# Altium schematic symbol library 388D_Control_v1.SchLib: 117 symbols (part 3 of 3)
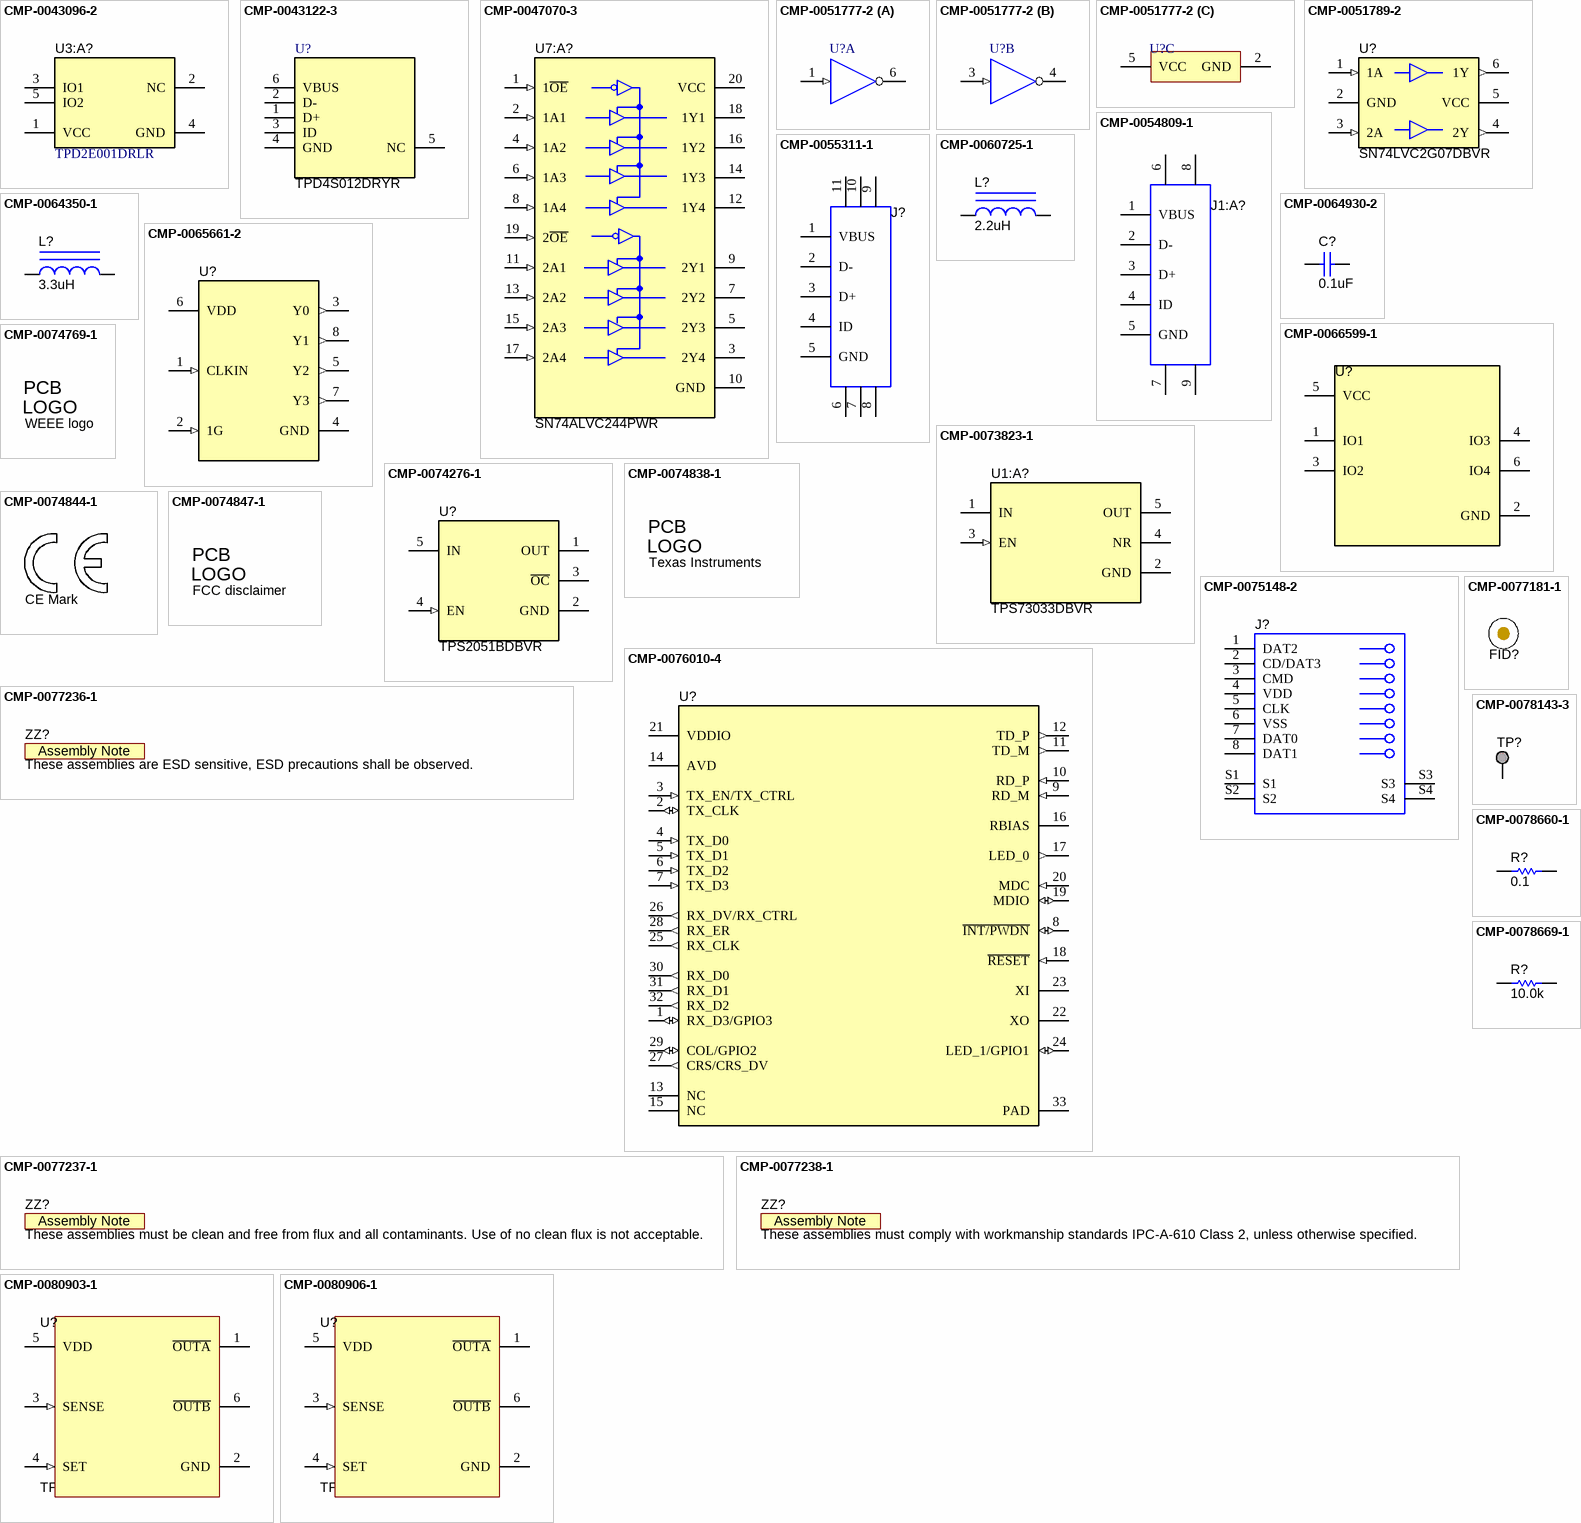
[diagram p6: symbols CMP-0043096-2 to CMP-0080906-1]

## CMP-0074838-1
designator Logo?, comment Texas Instruments  (no BOM)
Texas Instrument Corporate Signature; SymbolCreator: a0412235; Lib Reference: TI_Logo; Library Reference: Logo; SymbolVersion: 2011-08-22; Published: 2009-03-03; Publisher: Texas Instruments; ClassName: Logo; LatestRevisionDate: 2017-07-06; PartNumber: Texas Instruments
footprint TI_Horizontal_Overlay_Medium
footprint TI_Horizontal_Overlay_Small
footprint TI_Stacked_SolderMask_Small
footprint TI_Stacked_SolderMask_Small_Vertical
footprint TI_Symbol_Overlay_Medium
footprint TI_Symbol_Overlay_Small
footprint TI_Symbol_SolderMask_Medium
footprint TI_Symbol_SolderMask_Small
footprint TI_Horizontal_SolderMask_Medium
footprint TI_Horizontal_SolderMask_Small
footprint TI_Stacked_Overlay_Medium
footprint TI_Stacked_Overlay_Medium_Vertical
footprint TI_Stacked_Overlay_Small
footprint TI_Stacked_Overlay_Small_Vertical
footprint TI_Stacked_SolderMask_Medium
footprint TI_Stacked_SolderMask_Medium_Vertical
text: PCB; LOGO

## CMP-0074844-1
designator Logo?, comment CE Mark  (no BOM)
SymbolCreator: a0412235; Published: 2009-03-03; Publisher: Texas Instruments; LatestRevisionDate: 2017-07-06; Lib Reference: CE Mark; PartNumber: CE Mark; Library Reference: CE Mark
footprint CE_Mark_5mm (Minimum text height for CE Mark)
footprint CE_Mark_10mm (Double the minimum text height for CE Mark)

## CMP-0074847-1
designator Logo?, comment FCC disclaimer  (no BOM)
FCC_disclaimer; Library Reference: Logo; Published: 2009-03-03; Publisher: Texas Instruments; LatestRevisionDate: 2017-07-06; Lib Reference: FCC_disclaimer; PartNumber: FCC disclaimer
footprint FCC_disclaimer
footprint FCC_disclaimer_stacked
text: PCB; LOGO

## CMP-0075148-2
designator J?, comment 2908-05WB-MG  (value not drawn)
Connector, Micro SD, R/A, SMD; Manufacturer: 3M; Gender: Female; Row_Count: 1; Pitch_mm: 1.1; ContactFinish: Gold; ComponentLink1URL: http://multimedia.3m.com/mws/media/416257O/3mtm-card-connector-microsdtm-2900-series-ts2197.pdf?&a4x&cEVuQEcuZgVs6EVs6E666666--; Supplier Part Number 2: 28M0115; Supplier 2: Newark; Supplier Part Number 3: 517-2908-05WB-MG; Supplier 3: Mouser; RoHS: Y; MountType: SMT; Supplier 1: Digi-Key; PackageReference: Connector, Micro SD, R/A, SMD; PinCount: 8; CompType: Connector; PartNumber: 2908-05WB-MG; Orientation: R/A; ComponentLink1Description: Datasheet URL; Supplier Part Number 1: 3M5607CT-ND
footprint 3M_2908-05WB-MG (Connector, Micro SD, R/A, SMD)
pins: 1 DAT2, 2 CD/DAT3, 3 CMD, 4 VDD, 5 CLK, 6 VSS, 7 DAT0, 8 DAT1, S1, S2, S3, S4
1 alternate drawing of the same symbol

## CMP-0076010-4
designator U?, comment DP83822IRHBR  (value not drawn)
Robust, Low Power 10/100 Ethernet Physical Layer Transceiver, RHB0032B (VQFN-32); Alternate PartNumber: DP83822IRHBT; Manufacturer: Texas Instruments; SizeZ_mm: 1.0; SizeX_mm: 5.0; SizeArea_mm2: 25.0; CompType: IC; SizeAreaWB_mm2: 49.0; AEC Category: Q200; AEC Qualified: N; ComponentLink1URL: http://www.ti.com/lit/ds/symlink/dp83822i.pdf; PackageDescription: VQFN-32; SizeY_mm: 5.0; PackageReference: RHB0032B; RoHS: Y; PartNumber: DP83822IRHBR; ComponentLink1Description: Datasheet Link; MountType: SMT; Alternate Manufacturer: Texas Instruments; ComponentLink2Description: ComponentLink2Description; ComponentLink2URL: http://www.ti.com/product/dp83822i; ComponentLink3Description: Online Datasheet; ComponentLink3URL: http://www.ti.com/product/GPN/datasheet
footprint RHB0032B (QFN, 32-Leads, Body 5x5mm, Pitch 0.5mm, Thermal Pad 2.9x2.9mm)
pins: 1 RX_D3/GPIO3 (io), 2 TX_CLK (io), 3 TX_EN/TX_CTRL (in), 4 TX_D0 (in), 5 TX_D1 (in), 6 TX_D2 (in), 7 TX_D3 (in), 8 ~{INT/PWDN} (io), 9 RD_M (in), 10 RD_P (in), 11 TD_M (out), 12 TD_P (out), 13 NC, 14 AVD (power), 15 NC, 16 RBIAS, 17 LED_0 (out), 18 ~{RESET} (in), 19 MDIO (io), 20 MDC (in), 21 VDDIO (power), 22 XO, 23 XI, 24 LED_1/GPIO1 (io), 25 RX_CLK (out), 26 RX_DV/RX_CTRL (out), 27 CRS/CRS_DV (out), 28 RX_ER (out), 29 COL/GPIO2 (io), 30 RX_D0 (out), 31 RX_D1 (out), 32 RX_D2 (out), 33 PAD (power)

## CMP-0077181-1
designator FID?, comment Fiducial  (value not drawn)
Fiducial mark.  There is nothing to buy or mount.; CompType: Fiducial; Manufacturer: N/A; MountType: N/A; PackageReference: N/A; PartNumber: N/A; ClassName: FiducialMark; Library Reference: Fiducial
footprint Fiducial10-30
footprint Fiducial15-30
footprint Fiducial10-20
footprint Fiducial20-40
footprint Fiducial6.4-20

## CMP-0077236-1
designator ZZ?, comment These assemblies are ESD sensitive, ESD precautions shall be observed.  (no BOM)
CompType: AssemblyNote; ClassName: AssemblyNote; Publisher: Texas Instruments; LatestRevisionDate: 2017-08-10; Key: AssemblyNote
footprint AssemblyNote (Assembly Note)
text: Assembly Note

## CMP-0077237-1
designator ZZ?, comment These assemblies must be clean and free from flux and all contaminants. Use of no clean flux is not acceptable.  (no BOM)
CompType: AssemblyNote; ClassName: AssemblyNote; Publisher: Texas Instruments; LatestRevisionDate: 2017-08-10; Key: AssemblyNote
footprint AssemblyNote (Assembly Note)
text: Assembly Note

## CMP-0077238-1
designator ZZ?, comment These assemblies must comply with workmanship standards IPC-A-610 Class 2, unless otherwise specified.  (no BOM)
CompType: AssemblyNote; ClassName: AssemblyNote; Publisher: Texas Instruments; LatestRevisionDate: 2017-08-10; Key: AssemblyNote
footprint AssemblyNote (Assembly Note)
text: Assembly Note

## CMP-0078143-3
designator TP?, comment TESTPOINT  (value not drawn)  (no BOM)
TEST POINT.  No entry in BOM.; CompType: Testpoint; PackageReference: N/A; Manufacturer: N/A; PartNumber: N/A; Library Reference: TESTPOINT
footprint TESTPOINT
footprint TP_VIA_018RND008
footprint TP_VIA_060RND040
footprint TP_25MIL-SMT
footprint TP_50MIL-25MILHOLE
footprint TP_60MIL-SMT
footprint TP_VIA_024RND014
footprint TP_50MIL-SMT
footprint TP_60MIL-SMT-155
pins: 1

## CMP-0078660-1
designator R?, comment ValueDisplayed: 0.1  (hidden comment: ERJ2BWFR100X)
RES, 0.1, 1%, 0.25 W, 0402; Manufacturer: Panasonic; Power_W: 250mW; TempCo: 300 ppm/C; Value_Code: R100; Value: 0.1; EIA_Code: E96; Res_ohm: 1d; SizeX_mm: 1; SizeY_mm: 0.5; SizeZ_mm: 0.6; Value2: 0.25W; CompType: Resistor; AEC Qualified: N; AEC Category: Q200; ComponentLink1URL: https://industrial.panasonic.com/cdbs/www-data/pdf/RDN0000/AOA0000C313.pdf; Supplier Part Number 2: 667-ERJ-2BWFR100X; Supplier 2: Mouser; RoHS: Y; Value1: 1%; MountType: SMT; Supplier 1: Digi-Key; PackageReference: 0402; Tolerance_%: 1%; SizeArea_mm2: 0.5; PartNumber: ERJ2BWFR100X; ComponentLink1Description: Datasheet link; AEC Grade: N/A; Supplier Part Number 1: P17368CT-ND; Technology: Thick Film
footprint 0402 (0402 from SM-752 data)
footprint 0402M (0402 from SM-752 data)
footprint 0402L (0402 from SM-752 data)
footprint 0402S (Based on C0402S footprint from PADS legacy)
pins: 1, 2

## CMP-0078669-1
designator R?, comment ValueDisplayed: 10.0k  (hidden comment: RC0402FR-0710KL)
RES, 10.0 k, 1%, 0.063 W, 0402; Manufacturer: Yageo America; Power_W: 63mW; Green_Lifecycle: Active; TempCo: 100 ppm/C; Value_Code: 10k0; Green_REACh: Passed; Value: 10.0k; EIA_Code: E96; Res_ohm: 10k; SizeX_mm: 1; SizeY_mm: 0.5; SizeZ_mm: 0.6; Value2: 0.063W; CompType: Resistor; AEC Qualified: N; AEC Category: Q200; ComponentLink1URL: http://www.yageo.com/documents/recent/PYu-RC_Group_51_RoHS_L_8.pdf; Supplier Part Number 2: 98K7499; Supplier 2: Newark; Supplier Part Number 3: 603-RC0402FR-0710KL; Supplier 3: Mouser; RoHS: Y; Value1: 1%; MountType: SMT; Green_EU RoHS-2: Passed; Supplier 1: Digi-Key; Green_EU RoHS: Passed with Exemption; PackageReference: 0402; Tolerance_%: 1%; SizeArea_mm2: 0.5; PartNumber: RC0402FR-0710KL; ComponentLink1Description: Datasheet link; AEC Grade: N/A; Supplier Part Number 1: 311-10.0KLRCT-ND; Technology: Thick Film
footprint 0402 (0402 from SM-752 data)
footprint 0402M (0402 from SM-752 data)
footprint 0402L (0402 from SM-752 data)
footprint 0402S (Based on C0402S footprint from PADS legacy)
pins: 1, 2

## CMP-0080903-1
designator U?, comment TPS3702CX33DDCT
High-Accuracy, Fixed-Threshold OV/UV Monitor, DDC0006A (SOT-23-T-6); Alternate PartNumber: TPS3702CX33DDCR; Alternate Manufacturer: Texas Instruments; SizeAreaWB_mm2: 10.4675; SizeZ_mm: 0.87; SizeX_mm: 1.65; SizeY_mm: 2.95; SizeArea_mm2: 4.8675; CompType: IC; AEC Qualified: N; AEC Category: Q200; ComponentLink1URL: http://www.ti.com/lit/ds/symlink/tps3702.pdf; PackageDescription: SOT-23-T-6; RoHS: Y; MountType: SMT; ComponentLink2URL: http://www.ti.com/product/tps3702; ComponentLink3Description: Online Datasheet; ComponentLink2Description: Product Folder; Manufacturer: Texas Instruments; ComponentLink3URL: http://www.ti.com/product/tps3702/datasheet; PackageReference: DDC0006A; ComponentLink1Description: Datasheet Link; PartNumber: TPS3702CX33DDCT
footprint DDC0006A_N
footprint DDC0006A_M
footprint DDC0006A_L
pins: 1 ~{OUTA} (oc), 2 GND (power), 3 SENSE (in), 4 SET (in), 5 VDD (power), 6 ~{OUTB} (oc)
1 alternate drawing of the same symbol

## CMP-0080906-1
designator U?, comment TPS3702CX12DDCT
High-Accuracy, Fixed-Threshold OV/UV Monitor, DDC0006A (SOT-23-T-6); Alternate PartNumber: TPS3702CX12DDCR; Alternate Manufacturer: Texas Instruments; SizeAreaWB_mm2: 10.4675; SizeZ_mm: 0.87; SizeX_mm: 1.65; SizeY_mm: 2.95; SizeArea_mm2: 4.8675; CompType: IC; AEC Qualified: N; AEC Category: Q200; ComponentLink1URL: http://www.ti.com/lit/ds/symlink/tps3702.pdf; PackageDescription: SOT-23-T-6; RoHS: Y; MountType: SMT; ComponentLink2URL: http://www.ti.com/product/tps3702; ComponentLink3Description: Online Datasheet; ComponentLink2Description: Product Folder; Manufacturer: Texas Instruments; ComponentLink3URL: http://www.ti.com/product/tps3702/datasheet; PackageReference: DDC0006A; ComponentLink1Description: Datasheet Link; PartNumber: TPS3702CX12DDCT
footprint DDC0006A_N
footprint DDC0006A_M
footprint DDC0006A_L
pins: 1 ~{OUTA} (oc), 2 GND (power), 3 SENSE (in), 4 SET (in), 5 VDD (power), 6 ~{OUTB} (oc)
1 alternate drawing of the same symbol

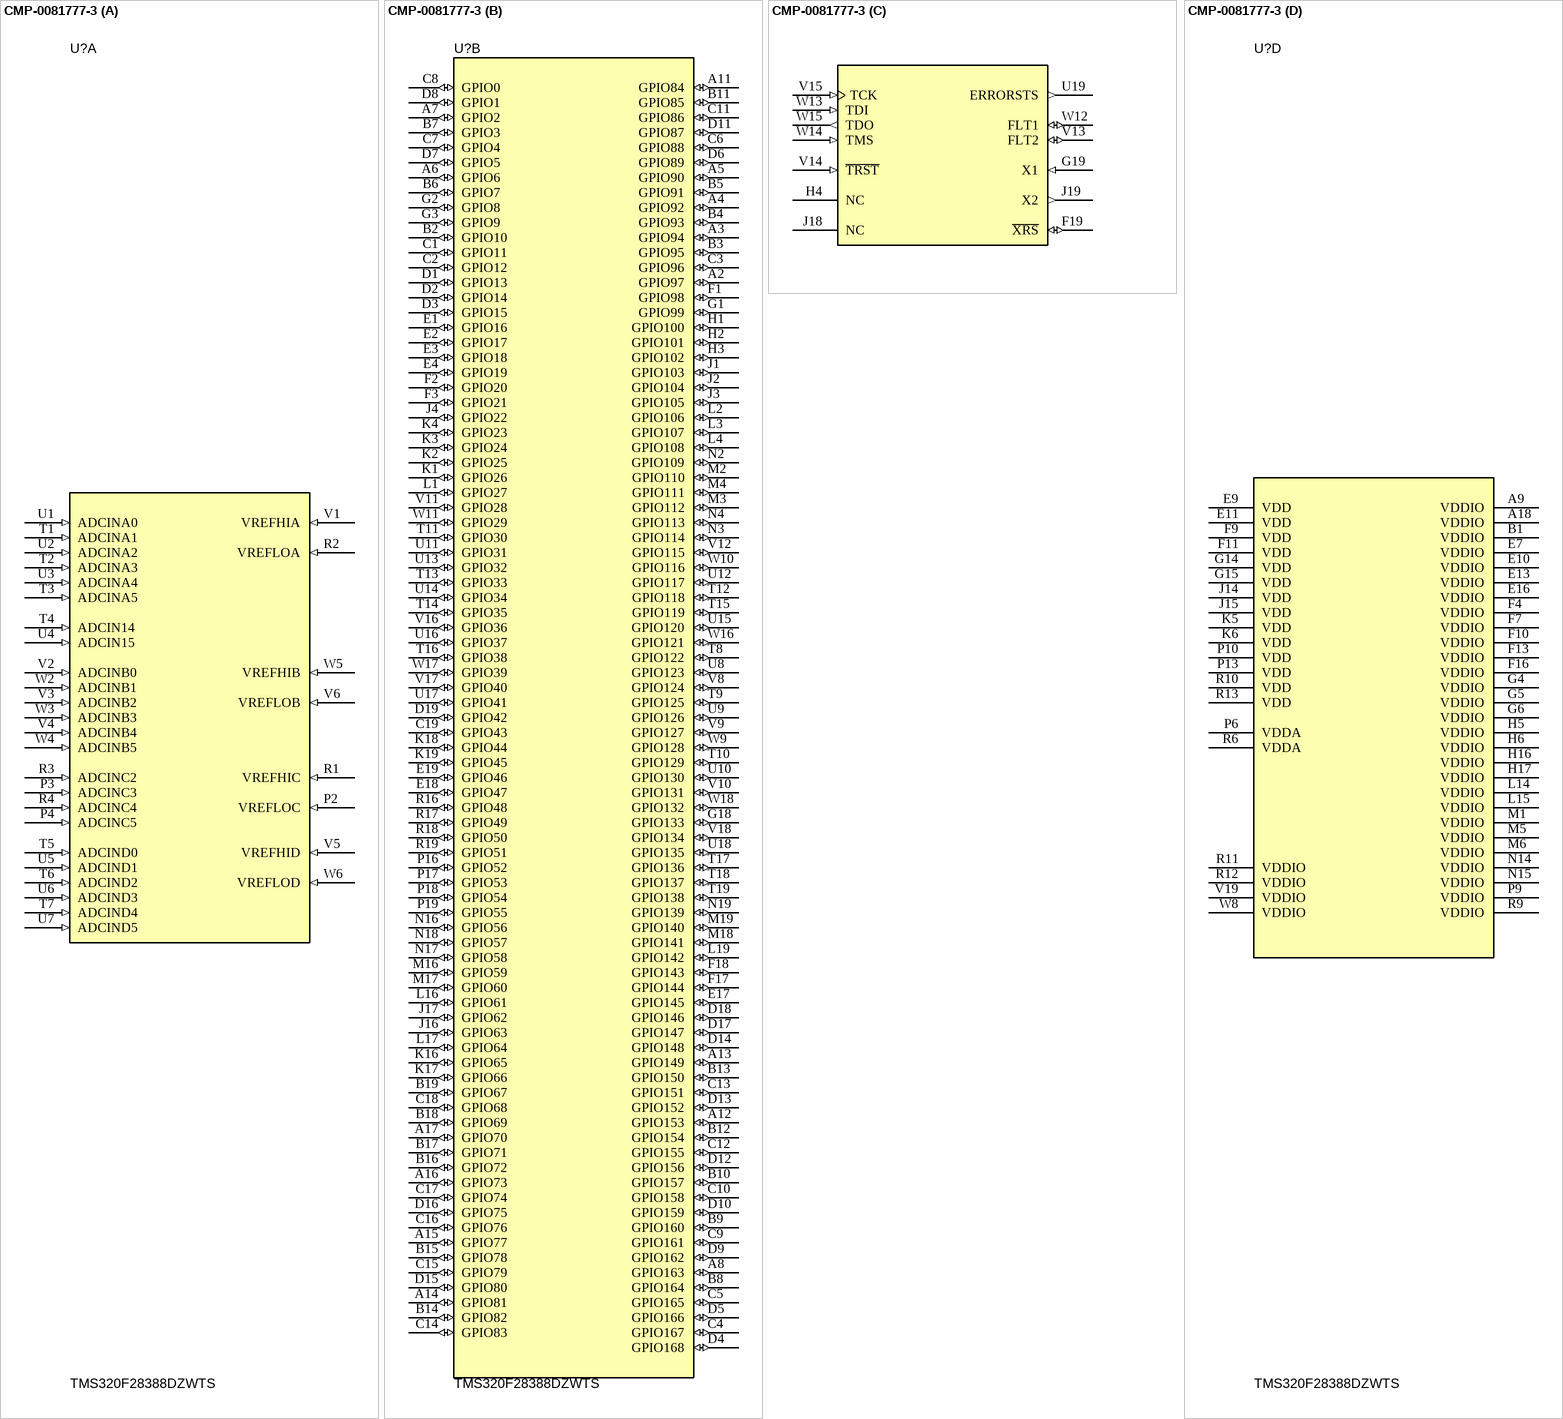
[diagram p3: symbol CMP-0081777-3]

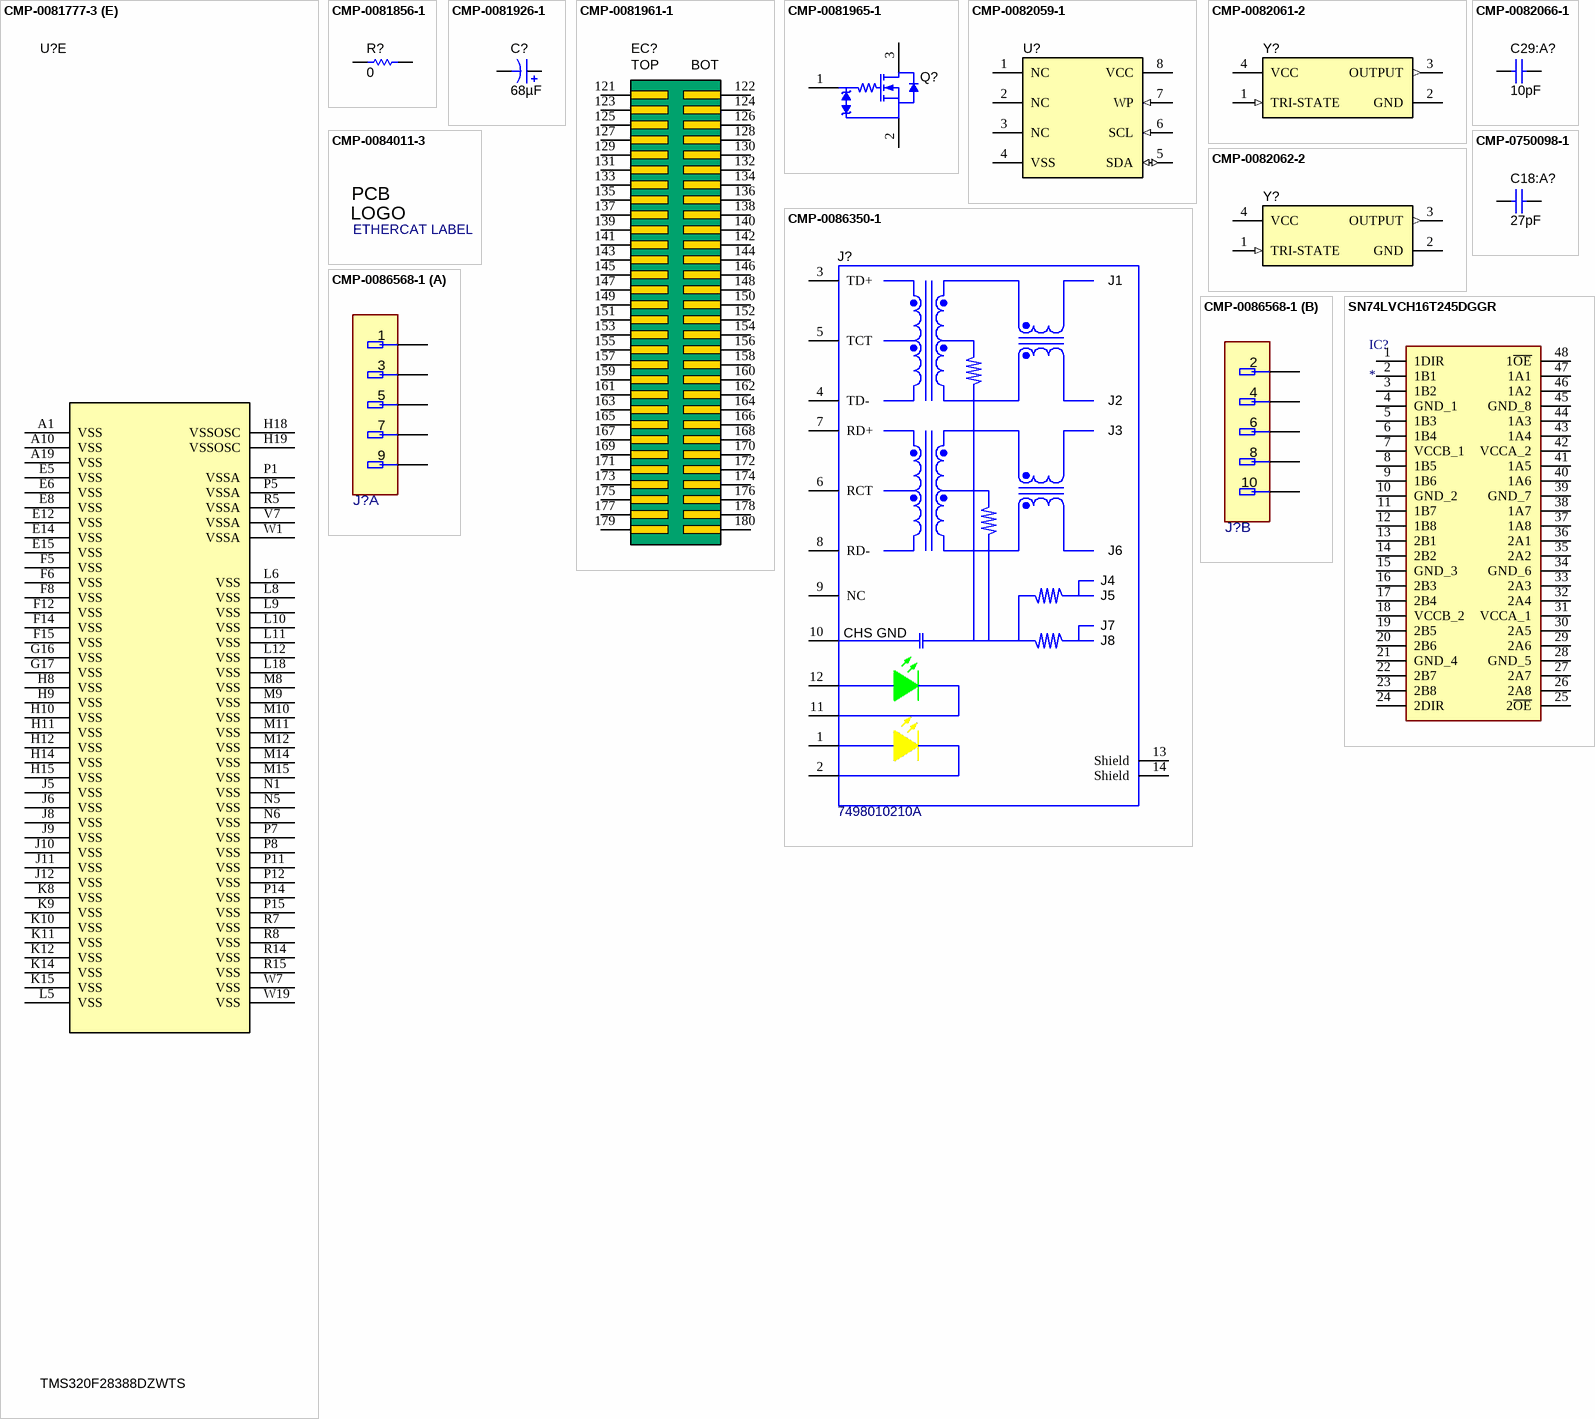
[diagram p4: symbols CMP-0081777-3 to SN74LVCH16T245DGGR]

## CMP-0081777-3
designator U?, comment TMS320F28388DZWTS
TMS320F28388DZWTS, ZWT0337A (NFBGA-337); Manufacturer: Texas Instruments; SizeAreaWB_mm2: 324; SizeArea_mm2: 256; AEC Qualified: N; AEC Category: Q200; SizeZ_mm: 1.4; SizeY_mm: 16; CompType: IC; ComponentLink1Description: Datasheet Link; ComponentLink2Description: Product Folder; PackageReference: ZWT0337A; PackageDescription: NFBGA-337; ComponentLink2URL: http://www.ti.com/product/tms320f28388d; Alternate Manufacturer: Texas Instruments; ComponentLink3URL: http://www.ti.com/product/tms320f28388d/datasheet; ComponentLink1URL: http://www.ti.com/lit/ds/symlink/tms320f28388d.pdf; MountType: SMT; ComponentLink3Description: Online Datasheet; SizeX_mm: 16; PartNumber: TMS320F28388DZWTS
footprint ZWT0337A (BGA, 337-Leads, Body 16x16mmx1.4mm, Pitch 0.80mm)
part A pins: P2 VREFLOC (in), P3 ADCINC3 (in), P4 ADCINC5 (in), R1 VREFHIC (in), R2 VREFLOA (in), R3 ADCINC2 (in), R4 ADCINC4 (in), T1 ADCINA1 (in), T2 ADCINA3 (in), T3 ADCINA5 (in), T4 ADCIN14 (in), T5 ADCIND0 (in), T6 ADCIND2 (in), T7 ADCIND4 (in), U1 ADCINA0 (in), U2 ADCINA2 (in), U3 ADCINA4 (in), U4 ADCIN15 (in), U5 ADCIND1 (in), U6 ADCIND3 (in), U7 ADCIND5 (in), V1 VREFHIA (in), V2 ADCINB0 (in), V3 ADCINB2 (in), V4 ADCINB4 (in), V5 VREFHID (in), V6 VREFLOB (in), W2 ADCINB1 (in), W3 ADCINB3 (in), W4 ADCINB5 (in), W5 VREFHIB (in), W6 VREFLOD (in)
part B pins: A2 GPIO97 (io), A3 GPIO94 (io), A4 GPIO92 (io), A5 GPIO90 (io), A6 GPIO6 (io), A7 GPIO2 (io), A8 GPIO163 (io), A11 GPIO84 (io), A12 GPIO153 (io), A13 GPIO149 (io), A14 GPIO81 (io), A15 GPIO77 (io), A16 GPIO73 (io), A17 GPIO70 (io), B2 GPIO10 (io), B3 GPIO95 (io), B4 GPIO93 (io), B5 GPIO91 (io), B6 GPIO7 (io), B7 GPIO3 (io), B8 GPIO164 (io), B9 GPIO160 (io), B10 GPIO157 (io), B11 GPIO85 (io), B12 GPIO154 (io), B13 GPIO150 (io), B14 GPIO82 (io), B15 GPIO78 (io), B16 GPIO72 (io), B17 GPIO71 (io), B18 GPIO69 (io), B19 GPIO67 (io), C1 GPIO11 (io), C2 GPIO12 (io), C3 GPIO96 (io), C4 GPIO167 (io), C5 GPIO165 (io), C6 GPIO88 (io), C7 GPIO4 (io), C8 GPIO0 (io), C9 GPIO161 (io), C10 GPIO158 (io), C11 GPIO86 (io), C12 GPIO155 (io), C13 GPIO151 (io), C14 GPIO83 (io), C15 GPIO79 (io), C16 GPIO76 (io), C17 GPIO74 (io), C18 GPIO68 (io), C19 GPIO43 (io), D1 GPIO13 (io), D2 GPIO14 (io), D3 GPIO15 (io), D4 GPIO168 (io), D5 GPIO166 (io), D6 GPIO89 (io), D7 GPIO5 (io), D8 GPIO1 (io), D9 GPIO162 (io), D10 GPIO159 (io), D11 GPIO87 (io), D12 GPIO156 (io), D13 GPIO152 (io), D14 GPIO148 (io), D15 GPIO80 (io), D16 GPIO75 (io), D17 GPIO147 (io), D18 GPIO146 (io), D19 GPIO42 (io), E1 GPIO16 (io), E2 GPIO17 (io), E3 GPIO18 (io), E4 GPIO19 (io), E17 GPIO145 (io), E18 GPIO47 (io), E19 GPIO46 (io), F1 GPIO98 (io), F2 GPIO20 (io), F3 GPIO21 (io), F17 GPIO144 (io), F18 GPIO143 (io), G1 GPIO99 (io), G2 GPIO8 (io), G3 GPIO9 (io), G18 GPIO133 (io), H1 GPIO100 (io), H2 GPIO101 (io), H3 GPIO102 (io), J1 GPIO103 (io), J2 GPIO104 (io), J3 GPIO105 (io), J4 GPIO22 (io), J16 GPIO63 (io), J17 GPIO62 (io), K1 GPIO26 (io), K2 GPIO25 (io), K3 GPIO24 (io), K4 GPIO23 (io), K16 GPIO65 (io), K17 GPIO66 (io), K18 GPIO44 (io), K19 GPIO45 (io), L1 GPIO27 (io), L2 GPIO106 (io), L3 GPIO107 (io), L4 GPIO108 (io), L16 GPIO61 (io), L17 GPIO64 (io), L19 GPIO142 (io), M2 GPIO110 (io), M3 GPIO112 (io), M4 GPIO111 (io), M16 GPIO59 (io), M17 GPIO60 (io), M18 GPIO141 (io), M19 GPIO140 (io), N2 GPIO109 (io), N3 GPIO114 (io), N4 GPIO113 (io), N16 GPIO56 (io), N17 GPIO58 (io), N18 GPIO57 (io), N19 GPIO139 (io), P16 GPIO52 (io), P17 GPIO53 (io), P18 GPIO54 (io), P19 GPIO55 (io), R16 GPIO48 (io), R17 GPIO49 (io), R18 GPIO50 (io), R19 GPIO51 (io), T8 GPIO122 (io), T9 GPIO125 (io), T10 GPIO129 (io), T11 GPIO30 (io), T12 GPIO118 (io), T13 GPIO33 (io), T14 GPIO35 (io), T15 GPIO119 (io), T16 GPIO38 (io), T17 GPIO136 (io), T18 GPIO137 (io), T19 GPIO138 (io), U8 GPIO123 (io), U9 GPIO126 (io), U10 GPIO130 (io), U11 GPIO31 (io), U12 GPIO117 (io), U13 GPIO32 (io), U14 GPIO34 (io), U15 GPIO120 (io), U16 GPIO37 (io), U17 GPIO41 (io), U18 GPIO135 (io), V8 GPIO124 (io), V9 GPIO127 (io), V10 GPIO131 (io), V11 GPIO28 (io), V12 GPIO115 (io), V16 GPIO36 (io), V17 GPIO40 (io), V18 GPIO134 (io), W9 GPIO128 (io), W10 GPIO116 (io), W11 GPIO29 (io), W16 GPIO121 (io), W17 GPIO39 (io), W18 GPIO132 (io)
part C pins: F19 ~{XRS} (io), G19 X1 (in), H4 NC, J18 NC, J19 X2 (out), U19 ERRORSTS (out), V13 FLT2 (io), V14 ~{TRST} (in), V15 TCK (in), W12 FLT1 (io), W13 TDI (in), W14 TMS (in), W15 TDO (out)
part D pins: A9 VDDIO (power), A18 VDDIO (power), B1 VDDIO (power), E7 VDDIO (power), E9 VDD (power), E10 VDDIO (power), E11 VDD (power), E13 VDDIO (power), E16 VDDIO (power), F4 VDDIO (power), F7 VDDIO (power), F9 VDD (power), F10 VDDIO (power), F11 VDD (power), F13 VDDIO (power), F16 VDDIO (power), G4 VDDIO (power), G5 VDDIO (power), G6 VDDIO (power), G14 VDD (power), G15 VDD (power), H5 VDDIO (power), H6 VDDIO (power), H16 VDDIO (power), H17 VDDIO (power), J14 VDD (power), J15 VDD (power), K5 VDD (power), K6 VDD (power), L14 VDDIO (power), L15 VDDIO (power), M1 VDDIO (power), M5 VDDIO (power), M6 VDDIO (power), N14 VDDIO (power), N15 VDDIO (power), P6 VDDA (power), P9 VDDIO (power), P10 VDD (power), P13 VDD (power), R6 VDDA (power), R9 VDDIO (power), R10 VDD (power), R11 VDDIO (power), R12 VDDIO (power), R13 VDD (power), V19 VDDIO (power), W8 VDDIO (power)
part E pins: A1 VSS (power), A10 VSS (power), A19 VSS (power), E5 VSS (power), E6 VSS (power), E8 VSS (power), E12 VSS (power), E14 VSS (power), E15 VSS (power), F5 VSS (power), F6 VSS (power), F8 VSS (power), F12 VSS (power), F14 VSS (power), F15 VSS (power), G16 VSS (power), G17 VSS (power), H8 VSS (power), H9 VSS (power), H10 VSS (power), H11 VSS (power), H12 VSS (power), H14 VSS (power), H15 VSS (power), H18 VSSOSC (power), H19 VSSOSC (power), J5 VSS (power), J6 VSS (power), J8 VSS (power), J9 VSS (power), J10 VSS (power), J11 VSS (power), J12 VSS (power), K8 VSS (power), K9 VSS (power), K10 VSS (power), K11 VSS (power), K12 VSS (power), K14 VSS (power), K15 VSS (power), L5 VSS (power), L6 VSS (power), L8 VSS (power), L9 VSS (power), L10 VSS (power), L11 VSS (power), L12 VSS (power), L18 VSS (power), M8 VSS (power), M9 VSS (power), M10 VSS (power), M11 VSS (power), M12 VSS (power), M14 VSS (power), M15 VSS (power), N1 VSS (power), N5 VSS (power), N6 VSS (power), P1 VSSA (power), P5 VSSA (power), P7 VSS (power), P8 VSS (power), P11 VSS (power), P12 VSS (power), P14 VSS (power), P15 VSS (power), R5 VSSA (power), R7 VSS (power), R8 VSS (power), R14 VSS (power), R15 VSS (power), V7 VSSA (power), W1 VSSA (power), W7 VSS (power), W19 VSS (power)

## CMP-0081856-1
designator R?, comment ValueDisplayed: 0  (hidden comment: CRCW04020000Z0EDHP)
RES, 0, 0%, 0.2 W, AEC-Q200 Grade 0, 0402; Manufacturer: Vishay-Dale; SizeAreaWB_mm2: 3; SizeArea_mm2: 0.5; AEC Qualified: Y; AEC Category: Q200; Value: 0; SizeZ_mm: 0.6; Power_W: 200mW; VDC_V: 50V; Value2: 0.2W; CompType: Resistor; SizeX_mm: 1; ComponentLink1Description: Datasheet link; RoHS: Y; Supplier Part Number 3: 71-CRCW04020000Z0EDH; Tolerance_%: 0%; Value_Code: 0; Supplier 1: Digi-Key; PackageReference: 0402; Technology: Thick Film; Res_ohm: 0; PartNumber: CRCW04020000Z0EDHP; Supplier Part Number 2: 96Y9050; Supplier 2: Newark; AEC Grade: 0; SizeY_mm: 0.5; ComponentLink1URL: http://www.vishay.com/docs/20043/crcwhpe3.pdf; Value1: 0%; MountType: SMT; Supplier Part Number 1: 541-0.0YBTR-ND; Supplier 3: Mouser
footprint 0402 (0402 from SM-752 data)
footprint 0402M (0402 from SM-752 data)
footprint 0402L (0402 from SM-752 data)
footprint 0402S (Based on C0402S footprint from PADS legacy)
pins: 1, 2

## CMP-0081926-1
designator C?, comment ValueDisplayed: 68µF  (hidden comment: TLJA686M010R1500)
CAP, TA, 68 µF, 10 V, +/- 20%, 1.5 ohm, SMD; Manufacturer: AVX; TaMin_C: -55°C; ESR_ohm: 1.5; Polarized: Y; SizeAreaWB_mm2: 10.92; Value1: 1.5 ohm; Value: 68uF; TaMax_C: 125°C; SizeZ_mm: 1.8; SizeX_mm: 3.2; SizeY_mm: 1.6; Cap_Case: 3216-18; Value2: 10V; SizeArea_mm2: 5.12; CompType: Capacitor; AEC Qualified: N; IRMS_A: 2.24dA; AEC Category: Q200; ComponentLink1URL: http://datasheets.avx.com/TLJ.pdf; Supplier Part Number 2: 581-TLJA686M010R1500; Supplier 2: Mouser; RoHS: Y; MountType: SMT; Supplier 1: Digi-Key; PackageReference: 3216-18; Tolerance_%: 20%; PartNumber: TLJA686M010R1500; Series: TLJ; Cap_F: 68µF; ComponentLink1Description: Datasheet link; AEC Grade: N/A; Supplier Part Number 1: 478-4925-1-ND; Technology: TA
footprint 3216-18 (Based on AVX recommendation in http://www.avx.com/download/software/literature/AVX-Footprint-Library.pdf)
pins: 1 +, 2 -

## CMP-0081961-1
designator EC?, comment controlCARD-180HSEC-60pinAddon_Edge  (value not drawn)  (no BOM)
C2000 controlCARD-180HSEC (60-pin addon) Edge connector for Samtec HSEC8-130-01-L-DV-A; Manufacturer: Any; Note: The pin numbering does not match Samtec datasheet; CompType: Edge Connector; PartNumber: controlCARD-180HSEC-60pinAddon_Edge; MountType: N/A
footprint controlCARD-180HSEC-60pinAddon_Edge (Edge Connector, 0.8mm, 30x2, pad numbers do not match Samtec datasheet)
pins: 121, 122, 123, 124, 125, 126, 127, 128, 129, 130, 131, 132, 133, 134, 135, 136, 137, 138, 139, 140, 141, 142, 143, 144, 145, 146, 147, 148, 149, 150, 151, 152, 153, 154, 155, 156, 157, 158, 159, 160, 161, 162, 163, 164, 165, 166, 167, 168, 169, 170, 171, 172, 173, 174, 175, 176, 177, 178, 179, 180
text: TOP; BOT

## CMP-0081965-1
designator Q?, comment NTA7002NT1G  (value not drawn)
MOSFET, N-CH, 30 V, 0.154 A, AEC-Q101, SOT-416; Manufacturer: ON Semiconductor; Alternate Manufacturer: None; ChType: N; SizeAreaWB_mm2: 6.76; SizeArea_mm2: 2.56; IdsMax_A: 1.54dA; AEC Qualified: Y; VdsMax_V: 30V; Rdson45_ohm: 7; Vgs_V: 10V; AEC Category: Q101; Value: 30V; SizeZ_mm: 0.95; ChMode: Enhancement; SizeY_mm: 1.6; Value2: ? nC; Value1: 7 ohm; ComponentLink1Description: Datasheet link; RoHS: Y; Supplier Part Number 3: 863-NTA7002NT1G; Supplier 1: Digi-Key; PackageReference: SOT-416; PartNumber: NTA7002NT1G; Supplier Part Number 2: 10N9709; Supplier 2: Newark; ComponentLink1URL: https://www.onsemi.com/pub/Collateral/NTA7002N-D.PDF; CompType: MOSFET; MountType: SMT; Supplier Part Number 1: NTA7002NT1GOSCT-ND; SizeX_mm: 1.6; Supplier 3: Mouser
footprint SOT-416 (NXP recommended footprint.)
pins: 1 G, 2 S, 3 D

## CMP-0082059-1
designator U?, comment CAT24C16WI-GT3  (value not drawn)
16 Kb I2C EEPROM Serial, SOIC-8; Manufacturer: ON Semiconductor; SizeArea_mm2: 29.351; SizeAreaWB_mm2: 55.131; SizeY_mm: 4.9; SizeZ_mm: 1.75; SizeX_mm: 5.99; PartNumber: CAT24C16WI-GT3; Supplier Part Number 2: 23AC2979; Supplier 3: Mouser; PackageReference: SOIC-8; Supplier Part Number 1: CAT24C16WI-GT3CT-ND; ComponentLink1Description: Datasheet URL; MountType: SMT; ComponentLink1URL: https://www.onsemi.com/pub/Collateral/CAT24C01-D.PDF; Supplier 1: Digi-Key; RoHS: Y; Supplier 2: Newark; Supplier Part Number 3: 698-CAT24C16WI-GT3
footprint SOIC-8 (duplicate of SO-8.  SOIC, 8-Leads, Body 5.0x4.0mm (max), Pitch 1.27mm, IPC Medium Density)
footprint SOIC-8M (Duplicate of SO-8M.  SOIC, 8-Leads, Body 5.0x4.0mm (max), Pitch 1.27mm, IPC Least Density)
footprint SOIC-8L (Duplicate of SO-8.  SOIC, 8-Leads, Body 5.0x4.0mm (max), Pitch 1.27mm, IPC Most Density)
pins: 1 NC, 2 NC, 3 NC, 4 VSS (power), 5 SDA (io), 6 SCL (in), 7 WP (in), 8 VCC (power)

## CMP-0082061-2
designator Y?, comment ECS-2520S33-250-FN-TR  (value not drawn)
Oscillator, 25 MHz, 15 pF, SMD; Manufacturer: ECS Inc.; Frequency Stability: 10 ppm; SizeAreaWB_mm2: 10.5; SizeArea_mm2: 5; AEC Qualified: N; AEC Category: Q200; TaMax_C: 85°C; SizeZ_mm: 1; Frequency_Fixed: 25MHz; TaMin_C: -40°C; SizeY_mm: 2.5; Load Capacitance: 15 pF; SizeX_mm: 2; ComponentLink1Description: Datasheet Link; RoHS: Y; Supplier 1: Digi-Key; PackageReference: 2x2.5mm; PartNumber: ECS-2520S33-250-FN-TR; Supplier Part Number 2: 520-2520S33-250-FNT; Supplier 2: Mouser; AEC Grade: N/A; ComponentLink1URL: https://www.ecsxtal.com/store/pdf/ECS-2520S.pdf; CompType: Oscillator; Supplier Part Number 1: XC2198CT-ND; MountType: SMT
footprint ECS_ECS-2520S (SMD, 4-Leads, Body 2x2.5mm)
pins: 1 TRI-STATE (in), 2 GND (power), 3 OUTPUT (out), 4 VCC (power)

## CMP-0082062-2
designator Y?, comment ECS-2520S33-200-FN-TR  (value not drawn)
Oscillator, 20 MHz, 15 pF, SMD; Manufacturer: ECS Inc.; Frequency Stability: 10 ppm; SizeAreaWB_mm2: 10.5; SizeArea_mm2: 5; AEC Qualified: N; AEC Category: Q200; TaMax_C: 85°C; SizeZ_mm: 1; Frequency_Fixed: 20MHz; TaMin_C: -40°C; SizeY_mm: 2.5; Load Capacitance: 15 pF; SizeX_mm: 2; ComponentLink1Description: Datasheet Link; RoHS: Y; Supplier 1: Digi-Key; PackageReference: 2x2.5mm; PartNumber: ECS-2520S33-200-FN-TR; Supplier Part Number 2: 520-2520S33-200-FNT; Supplier 2: Mouser; AEC Grade: N/A; ComponentLink1URL: https://www.ecsxtal.com/store/pdf/ECS-2520S.pdf; CompType: Oscillator; Supplier Part Number 1: XC2196CT-ND; MountType: SMT
footprint ECS_ECS-2520S (SMD, 4-Leads, Body 2x2.5mm)
pins: 1 TRI-STATE (in), 2 GND (power), 3 OUTPUT (out), 4 VCC (power)

## CMP-0082066-1
designator C29:A?, comment ValueDisplayed: 10pF  (hidden comment: C1812C100JHGACTU)
CAP, CERM, 10 pF, 3000 V,+/- 5%, C0G/NP0, AEC-Q200 Grade 1, 1812; Manufacturer: Kemet; SizeAreaWB_mm2: 23.1; SizeArea_mm2: 14.4; AEC Qualified: Y; AEC Category: Q200; Value: 10pF; TaMax_C: 125°C; SizeZ_mm: 1.8; AEC Grade: 1; Polarized: N; TaMin_C: -55°C; SizeY_mm: 3.2; Value2: 3000V; U/M: EA; CompType: Capacitor; SizeX_mm: 4.5; Cap_Case: 1812; ComponentLink1Description: Datasheet link; Cap_F: 10pF; RoHS: Y; Tolerance_%: 5%; Supplier 1: Digi-Key; PackageReference: 1812; Technology: Ceramic; PartNumber: C1812C100JHGACTU; TempCo: C0G/NP0; Supplier Part Number 2: 80-C1812C100JHG; Supplier 2: Mouser; ComponentLink1URL: https://search.kemet.com/component-edge/download/datasheet/C1812C100JHGACTU.pdf; MountType: SMT; Supplier Part Number 1: 399-7113-1-ND
footprint 1812_180 (SMT, 2-Leads, Body 4.5x3.2mm)
pins: 1, 2

## CMP-0084011-3
designator Logo?, comment ETHERCAT LABEL  (no BOM)
EtherCAT logo; Publisher: Texas Instruments; LatestRevisionDate: 2018-07-27; Lib Reference: ETHERCAT LABEL; Library Reference: Logo; Published: 2009-03-03; ClassName: Logo
footprint EtherCAT_label (ETHERCAT_LABEL)
text: PCB; LOGO

## CMP-0086350-1
designator J?, comment 7498010210A
Connector, RJ45, 1x1, Gold, R/A, SMT; Manufacturer: Wurth Elektronik; Row_Count: 1; Gender: Female; ComponentLink1URL: https://sps16.itg.ti.com/sites/KMS/crossdivteams/altium/docs/ComponentDatasheets/7498010210A.pdf; ContactFinish: Gold; MountType: SMT; PinCount: 12; RoHS: Y; PackageReference: Connector, RJ45, 1x1, Gold, R/A, SMT; ComponentLink1Description: Datasheet URL; Orientation: R/A; CompType: RJ45; PartNumber: 7498010210A
footprint Wurth_7498010210A (Connector, RJ45, 1x1, Gold, R/A, SMT)
pins: 1 RIGHT LED ANODE, 2 RIGHT LED CATHODE, 3 TD+, 4 TD-, 5 TCT, 6 RCT, 7 RD+, 8 RD-, 9 NC, 10 CHS GND (power), 11 LEFT LED CATHODE, 12 LEFT LED ANODE, 13 Shield, 14 Shield
text: J1; J2; J3; J6; J4; J5; J7; J8

## CMP-0086568-1
designator J?, comment TMM-105-01-T-D  (value not drawn)
Board-To-Board Connector, TMM Series, 10 Contacts, Header, 2 mm, Through Hole, 2 Rows; Manufacturer: Samtec; ContactFinish: Tin,Nickel; Voltage_V: 281V; Symbol Name: SYM-TMM-105-01-T-D; Row_Count: 2; Current_A: 3.2A; RoHS: TRUE; ComponentLink1URL: http://suddendocs.samtec.com/catalog_english/tmm_th.pdf; ComponentLink1Description: Datasheet; PinCount: 10; PackageReference: HDR10; PartNumber: TMM-105-01-T-D; PartId: 1
footprint FP-TMM-105-01-T-D_HDR10-MFG
part A pins: 1, 3, 5, 7, 9
part B pins: 2, 4, 6, 8, 10

## CMP-0750098-1
designator C18:A?, comment ValueDisplayed: 27pF  (hidden comment: C0402C270J5GACTU)
CAP, CERM, 27 pF, 50 V,+/- 5%, C0G/NP0, 0402; Manufacturer: Kemet; SizeX_mm: 1; TaMin_C: -55°C; Value: 27pF; Cap_Case: 0402; Polarized: N; SizeAreaWB_mm2: 3; SizeArea_mm2: 0.5; Green_REACh: Passed; Green_Lifecycle: Active; Value2: 50V; U/M: EA; CompType: Capacitor; AEC Category: Q200; SizeZ_mm: 0.6; TaMax_C: 125°C; PartNumber: C0402C270J5GACTU; Tolerance_%: 5%; Cap_F: 27pF; Technology: Ceramic; RoHS: Y; ComponentLink1Description: Datasheet link; TempCo: C0G/NP0; PackageReference: 0402; ComponentLink1URL: https://content.kemet.com/datasheets/KEM_C1003_C0G_SMD.pdf; SizeY_mm: 0.5; Green_EU RoHS: Passed; MountType: SMT; Green_EU RoHS-2: Passed; AEC Qualified: N; AEC Grade: N/A
footprint 0402 (0402 from SM-752 data)
footprint 0402M (0402 from SM-752 data)
footprint 0402L (0402 from SM-752 data)
footprint 0402S (Based on C0402S footprint from PADS legacy)
pins: 1, 2

## SN74LVCH16T245DGGR
designator IC?
Integrated Circuit; Manufacturer_Name: Texas Instruments; Manufacturer_Part_Number: SN74LVCH16T245DGGR; Description: 16-Bit Dual-Supply Bus Transceiver; Datasheet Link: http://www.ti.com/lit/gpn/sn74lvch16t245; Height: 1.2mm; Mouser Part Number: 595-SN74LVCH16T245GR; Mouser Price/Stock: https://www.mouser.co.uk/ProductDetail/Texas-Instruments/SN74LVCH16T245DGGR?qs=dT9u2OTAaVU%2FCf3PTalIAw%3D%3D; Arrow Part Number: SN74LVCH16T245DGGR; Arrow Price/Stock: https://www.arrow.com/en/products/sn74lvch16t245dggr/texas-instruments
footprint SOP50P810X120-48N
pins: 1 1DIR, 2 1B1, 3 1B2, 4 GND_1, 5 1B3, 6 1B4, 7 VCCB_1, 8 1B5, 9 1B6, 10 GND_2, 11 1B7, 12 1B8, 13 2B1, 14 2B2, 15 GND_3, 16 2B3, 17 2B4, 18 VCCB_2, 19 2B5, 20 2B6, 21 GND_4, 22 2B7, 23 2B8, 24 2DIR, 25 2~{OE}, 26 2A8, 27 2A7, 28 GND_5, 29 2A6, 30 2A5, 31 VCCA_1, 32 2A4, 33 2A3, 34 GND_6, 35 2A2, 36 2A1, 37 1A8, 38 1A7, 39 GND_7, 40 1A6, 41 1A5, 42 VCCA_2, 43 1A4, 44 1A3, 45 GND_8, 46 1A2, 47 1A1, 48 1~{OE}